# EAGLE library part USBAM (library toslink)
USB A Male PCB connector
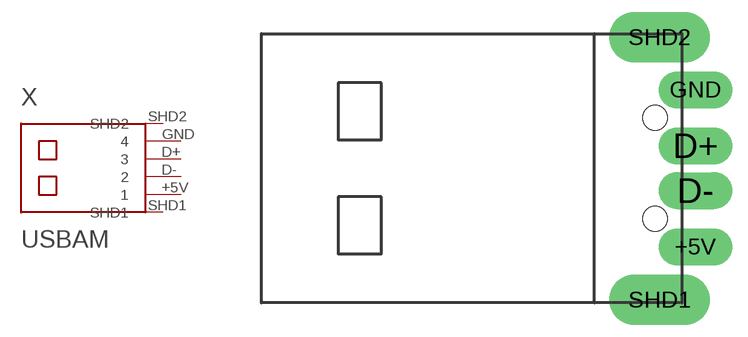
[diagram p10: symbol with the pads of USBAM; footprint USBAM]

Designator prefix X

## USBAM  [USBAM]
+5V  1  pwr
D+  3
D-  2
GND  4  pwr
SHD1  SHD1  nc
SHD2  SHD2  nc

## Footprint USBAM (pad centres in mm)
USB A male connector to PCB
drill 1.1 long: +5V 9.58,-3.5; D+ 9.58,1; D- 9.58,-1; GND 9.58,3.5
drill 1.5 long: SHD1 7.98,-5.85; SHD2 7.98,5.85
hole 1.1 at 7.78,2.25
hole 1.1 at 7.78,-2.25